# EAGLE library part MCP73871 (library FaBo-Solar)
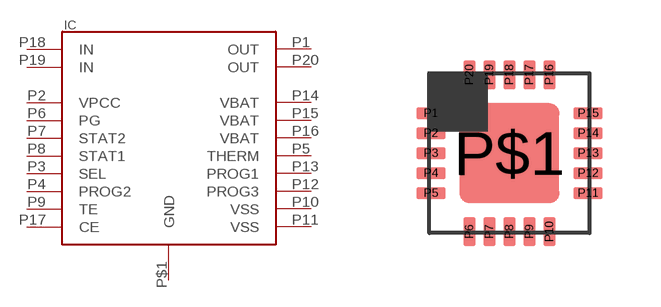
[diagram p0: symbol with the pads of QFN; footprint QFN]

Designator prefix IC

## MCP73871  [QFN]
P1  OUT
P2  VPCC
P3  SEL
P4  PROG2
P5  THERM
P6  PG
P7  STAT2
P8  STAT1
P9  TE
P10  VSS
P11  VSS
P12  PROG3
P13  PROG1
P14  VBAT
P15  VBAT
P16  VBAT
P17  CE
P18  IN
P19  IN
P20  OUT
P$1  GND

## Footprint QFN (pad centres in mm)
smd 0.73 x 0.3: P1 -1.965,1; P2 -1.965,0.5; P3 -1.965,0; P4 -1.965,-0.5; P5 -1.965,-1; P11 1.965,-1; P12 1.965,-0.5; P13 1.965,0; P14 1.965,0.5; P15 1.965,1
smd 0.3 x 0.73: P6 -1,-1.965; P7 -0.5,-1.965; P8 0,-1.965; P9 0.5,-1.965; P10 1,-1.965; P16 1,1.965; P17 0.5,1.965; P18 0,1.965; P19 -0.5,1.965; P20 -1,1.965
smd 2.5 x 2.5: P$1 0,0